# EAGLE library part CONNECTOR-15 (library marius)
15-pin connectors
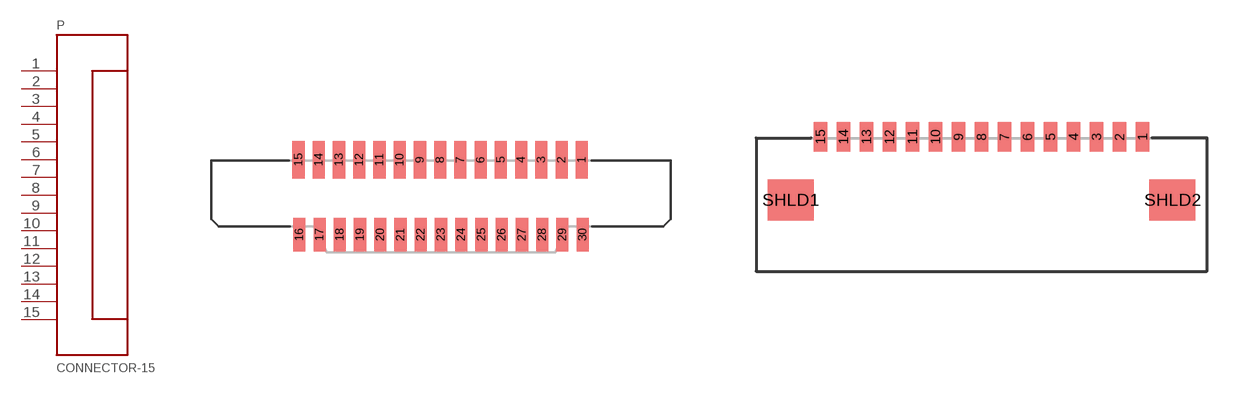
[diagram p15: symbol with the pads of TYCO_1-1734248-5; footprints TYCO_1-1734248-5, 686115148922]

Designator prefix P

## CONNECTOR-151-1734248-5  [TYCO_1-1734248-5]
1  1
2  2
3  3
4  4
5  5
6  6
7  7
8  8
9  9
10  10
11  11
12  12
13  13
14  14
15  15

## CONNECTOR-15686115148922 (FARNEL: 2470725; MPN: 686115148922)  [686115148922]
Pads as for TYCO_1-1734248-5

## Footprint TYCO_1-1734248-5 (pad centres in mm)
smd 0.6 x 1.85: 1 6.96,1.8; 2 5.96,1.8; 3 4.96,1.8; 4 3.96,1.8; 5 2.96,1.8; 6 1.96,1.8; 7 0.96,1.8; 8 -0.04,1.8; 9 -1.04,1.8; 10 -2.04,1.8; 11 -3.04,1.8; 12 -4.04,1.8; 13 -5.04,1.8; 14 -6.04,1.8; 15 -7.04,1.8
smd 0.6 x 1.65: 16 -7,-1.9; 17 -6,-1.9; 18 -5,-1.9; 19 -4,-1.9; 20 -3,-1.9; 21 -2,-1.9; 22 -1,-1.9; 23 0,-1.9; 24 1,-1.9; 25 2,-1.9; 26 3,-1.9; 27 4,-1.9; 28 5,-1.9; 29 6,-1.9; 30 7,-1.9

## Footprint 686115148922 (pad centres in mm)
smd 0.6 x 1.3: 1 7,2.95; 2 6,2.95; 3 5,2.95; 4 4,2.95; 5 3,2.95; 6 2,2.95; 7 1,2.95; 8 0,2.95; 9 -1,2.95; 10 -2,2.95; 11 -3,2.95; 12 -4,2.95; 13 -5,2.95; 14 -6,2.95; 15 -7,2.95
smd 2 x 1.8: SHLD1 -8.3,0.2; SHLD2 8.3,0.2